# Altium schematic symbol library symbol-template.SchLib: 1 symbol
Pins are listed as number, name and electrical type; pins without a type are passive.

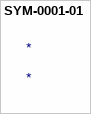
[diagram p0: symbol SYM-0001-01]

## SYM-0001-01
designator *